# Altium footprint library Footprints.PcbLib: 1 footprints
Each footprint in its own frame and in the unit in brackets; x right, y up, seen from the top. Pads: shape width x height; smd on the part's side, far side on the other; paste and mask are expansions set on the pad; w line width, h text height; cw(c..) or ccw(c..) is an arc to the next point about the centre after c.
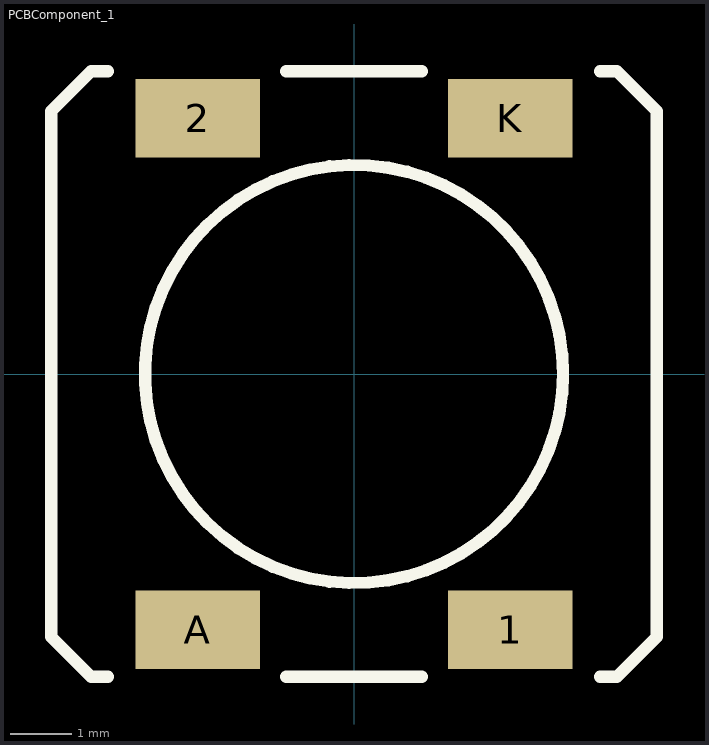
[diagram p0: the footprint, top view; thin cyan lines are the x and y axes]

## PCBComponent_1 [mm]
pads (4):
  rect 2.025x1.275 smd: 1(2.538,-4.163) 2(-2.538,4.163) A(-2.538,-4.163) K(2.538,4.163)
Top Overlay:
  circle w0.2: c0,0 r3.4
  lines w0.2: -4,-4.925 -4.275,-4.925 -4.925,-4.275 -4.925,4.275 -4.275,4.925 -4,4.925 ; -1.1,-4.925 1.1,-4.925 ; -1.1,4.925 1.1,4.925 ; 4,-4.925 4.275,-4.925 4.925,-4.275 4.925,4.275 4.275,4.925 4,4.925